# EAGLE library part ESP12EF_ADAPTOR (library wifi_switch)
ESP-12E/F Adaptor designed by IFFPC.
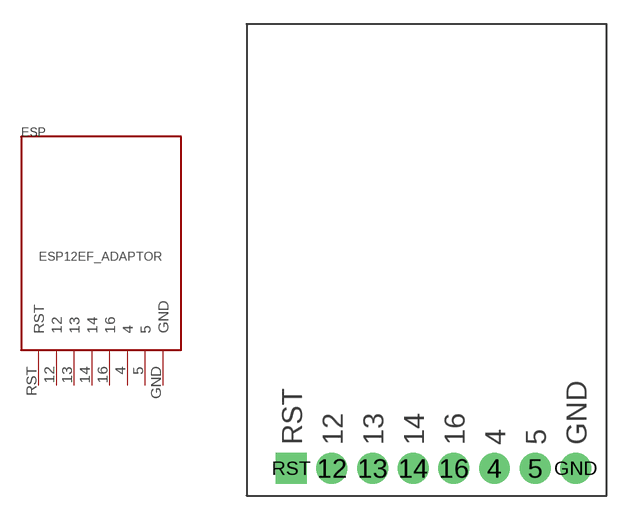
[diagram p1: symbol with the pads of ESP12EF_ADAPTOR; footprint ESP12EF_ADAPTOR]

Designator prefix ESP

## ESP12EF_ADAPTOR  [ESP12EF_ADAPTOR]
4  4
5  5
12  12
13  13
14  14
16  16
GND  GND
RST  RST

## Footprint ESP12EF_ADAPTOR (pad centres in mm)
drill 1.1 pad 1.93: 4 15.5,1.7; 5 18.04,1.7; 12 5.34,1.7; 13 7.88,1.7; 14 10.42,1.7; 16 12.96,1.7; GND 20.58,1.7
drill 1.1 pad 1.93 square: RST 2.8,1.7